# Altium schematic symbol library NUP2105L.SchLib: 1 symbol
Pins are listed as number, name and electrical type; pins without a type are passive.

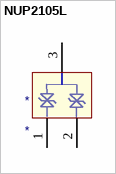
[diagram p0: symbol NUP2105L]

## NUP2105L
designator *
pins: 1, 2, 3